# Altium footprint library PcbLib1.PcbLib: 27 footprints (part 2 of 2)
Each footprint in its own frame and in the unit in brackets; x right, y up, seen from the top. Pads: shape width x height; smd on the part's side, far side on the other; paste and mask are expansions set on the pad; w line width, h text height; cw(c..) or ccw(c..) is an arc to the next point about the centre after c.
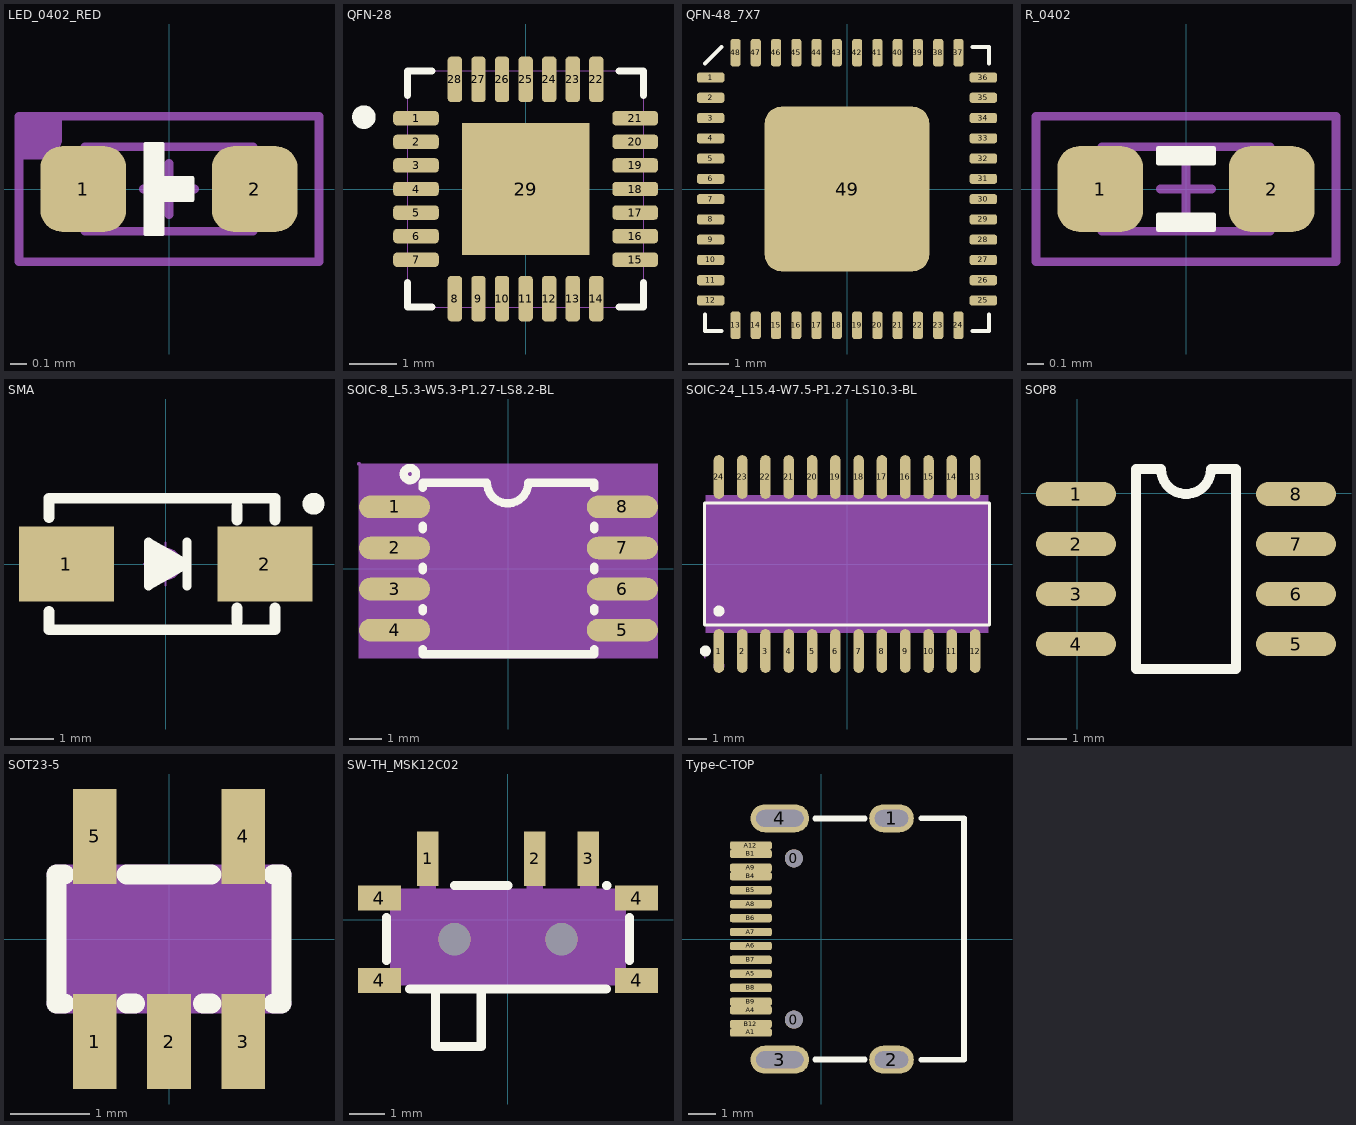
[diagram p1: the footprints below, top view; thin cyan lines are the x and y axes]

## LED_0402_RED [mil]
height 31.5
pads (2):
  rrect50% 20x20 smd: 1(-20,0) 2(20,0)
Top Overlay:
  region: -5.5,10.5 -1.5,10.5 -1.5,2.5 5.5,2.5 5.5,-2.5 -1.5,-2.5 -1.5,-10.5 -5.5,-10.5
  lines w1: -5.5,-10.5 -1.5,-10.5 -1.5,-2.5 5.5,-2.5 5.5,2.5 -1.5,2.5 -1.5,10.5 -5.5,10.5 -5.5,-10.5
Mechanical 13:
  lines w2: -6,0 6,0 ; 0,-6 0,6 ; -19.69,-9.84 -19.69,9.84 19.68,9.84 19.68,-9.84 -19.69,-9.84
Mechanical 14:
  region: -35,17 -25,17 -25,12 -25,11.01 -25.76,9.17 -27.17,7.76 -29.01,7 -30,7 -35,7
  lines w2: -35,-17 -35,17 35,17 35,-17 -35,-17
3D body "User Library-led_0402LED0402 red_.STEP": height 17.72, standoff 0, extent -19.88,-9.84 19.89,9.85

## QFN-28 [mil]
height 169.29
pads (29):
  rrect50% 38x12 smd mask+5: 1(-91.5,59.06) 2(-91.5,39.37) 3(-91.5,19.68) 4(-91.5,0) 5(-91.5,-19.68) 6(-91.5,-39.37) 7(-91.5,-59.06) 15(91.5,-59.06) 16(91.5,-39.37) 17(91.5,-19.68) 18(91.5,0) 19(91.5,19.68) 20(91.5,39.37) 21(91.5,59.06)
  rrect50% 12x38 smd mask+5: 8(-59.06,-91.5) 9(-39.37,-91.5) 10(-19.68,-91.5) 11(0,-91.5) 12(19.68,-91.5) 13(39.37,-91.5) 14(59.06,-91.5) 22(59.06,91.5) 23(39.37,91.5) 24(19.68,91.5) 25(0,91.5) 26(-19.68,91.5) 27(-39.37,91.5) 28(-59.06,91.5)
  rect 106.3x110.24 smd: 29(0,0)
Top Overlay:
  circle w9.84: c-135,60 r4.92
  lines w6: -98.5,-78.16 -98.5,-98.5 -78.16,-98.5 ; -98.5,78.16 -98.5,98.5 -78.16,98.5 ; 78.16,-98.5 98.5,-98.5 98.5,-78.16 ; 78.16,98.5 98.5,98.5 98.5,78.16
Mechanical 1:
  lines w0: -98.5,-98.5 98.5,-98.5 98.5,98.5 -98.5,98.5 -98.5,-98.5 ; -98.5,-65.06 -98.5,-53.06 -98.5,-65.06 ; -98.5,-45.37 -98.5,-33.37 -98.5,-45.37 ; -98.5,-25.68 -98.5,-13.69 -98.5,-25.68 ; -98.5,-6 -98.5,6 -98.5,-6 ; -98.5,13.69 -98.5,25.68 -98.5,13.69 ; -98.5,33.37 -98.5,45.37 -98.5,33.37 ; -98.5,53.06 -98.5,65.06 -98.5,53.06 ; -65.06,-98.5 -53.06,-98.5 -65.06,-98.5 ; -65.06,98.5 -53.06,98.5 -65.06,98.5 ; -45.37,-98.5 -33.37,-98.5 -45.37,-98.5 ; -45.37,98.5 -33.37,98.5 -45.37,98.5 ; -25.68,-98.5 -13.69,-98.5 -25.68,-98.5 ; -25.68,98.5 -13.69,98.5 -25.68,98.5 ; -6,-98.5 6,-98.5 -6,-98.5 ; -6,98.5 6,98.5 -6,98.5 ; 13.69,-98.5 25.68,-98.5 13.69,-98.5 ; 13.69,98.5 25.68,98.5 13.69,98.5 ; 33.37,-98.5 45.37,-98.5 33.37,-98.5 ; 33.37,98.5 45.37,98.5 33.37,98.5 ; 53.06,-98.5 65.06,-98.5 53.06,-98.5 ; 53.06,98.5 65.06,98.5 53.06,98.5 ; 98.5,-65.06 98.5,-53.06 98.5,-65.06 ; 98.5,-45.37 98.5,-33.37 98.5,-45.37 ; 98.5,-25.68 98.5,-13.69 98.5,-25.68 ; 98.5,-6 98.5,6 98.5,-6 ; 98.5,13.69 98.5,25.68 98.5,13.69 ; 98.5,33.37 98.5,45.37 98.5,33.37 ; 98.5,53.06 98.5,65.06 98.5,53.06
3D body "321.stp": height 35.43, standoff 0, extent -98.5,-98.5 98.35,98.35

## QFN-48_7X7 [mm]
height 4.3
pads (49):
  rrect50% 0.675x0.25 smd: 1(-3.363,2.75) 2(-3.363,2.25) 3(-3.363,1.75) 4(-3.363,1.25) 5(-3.363,0.75) 6(-3.363,0.25) 7(-3.363,-0.25) 8(-3.363,-0.75) 9(-3.363,-1.25) 10(-3.363,-1.75) 11(-3.363,-2.25) 12(-3.363,-2.75) 25(3.363,-2.75) 26(3.363,-2.25) 27(3.363,-1.75) 28(3.363,-1.25) 29(3.363,-0.75) 30(3.363,-0.25) 31(3.363,0.25) 32(3.363,0.75) 33(3.363,1.25) 34(3.363,1.75) 35(3.363,2.25) 36(3.363,2.75)
  rrect50% 0.25x0.675 smd: 13(-2.75,-3.363) 14(-2.25,-3.363) 15(-1.75,-3.363) 16(-1.25,-3.363) 17(-0.75,-3.363) 18(-0.25,-3.363) 19(0.25,-3.363) 20(0.75,-3.363) 21(1.25,-3.363) 22(1.75,-3.363) 23(2.25,-3.363) 24(2.75,-3.363) 37(2.75,3.363) 38(2.25,3.363) 39(1.75,3.363) 40(1.25,3.363) 41(0.75,3.363) 42(0.25,3.363) 43(-0.25,3.363) 44(-0.75,3.363) 45(-1.25,3.363) 46(-1.75,3.363) 47(-2.25,3.363) 48(-2.75,3.363)
  rrect20% 4.064x4.064 smd: 49(0,0)
Top Overlay:
  lines w0.1: -3.5,-3.1 -3.5,-3.5 -3.1,-3.5 ; -3.5,3.1 -3.1,3.5 ; 3.1,-3.5 3.5,-3.5 3.5,-3.1 ; 3.1,3.5 3.5,3.5 3.5,3.1
3D body: height 1, standoff 0.05, extent -3.5,-3.5 3.5,3.5

## R_0402 [mil]
height 13.78
pads (2):
  rrect50% 20x20 smd: 1(-20,0) 2(20,0)
Top Overlay:
  region: 6.5,-9.5 -6.5,-9.5 -6.5,-6 6.5,-6
  region: -6.5,9.5 6.5,9.5 6.5,6 -6.5,6
  lines w1: -6.5,-9.5 6.5,-9.5 6.5,-6 -6.5,-6 -6.5,-9.5 ; -6.5,6 -6.5,9.5 6.5,9.5 6.5,6 -6.5,6
Mechanical 13:
  lines w2: -6,0 6,0 ; 0,-6 0,6 ; -19.69,-9.84 -19.69,9.84 19.68,9.84 19.68,-9.84 -19.69,-9.84
Mechanical 14:
  lines w2: -35,-17 35,-17 35,17 -35,17 -35,-17
3D body "RESC1005X03L.step": height 13.78, standoff 0, extent -19.68,-9.84 19.69,9.85

## SMA [mm] "4.5x2.6*2.2mm（长宽高，不包括引脚）"
height 2.54
pads (2):
  rect 2.2x1.75 smd: 1(-2.3,0) 2(2.3,0)
Top Overlay:
  circle w0.254: c3.429,1.397 r0.127
  lines w0.203: 0.494,-0.508 0.494,0.508 ; -0.395,-0.508 -0.395,0.508 0.494,0 -0.395,-0.508
  lines w0.254: -2.7,-1.105 -2.7,-1.524 2.54,-1.524 2.54,-1.016 ; -2.7,1.08 -2.7,1.524 2.54,1.524 2.54,1.016 ; -0.33,0.305 0.305,0 -0.254,-0.305 -0.254,0.051 0.023,0 ; 1.651,-1.35 1.651,-1.016 ; 1.651,1.016 1.651,1.35
Mechanical 15:
  circle w0.05: c0,0 r0.35
  lines w0.05: -0.5,0 0.5,0 ; 0,-0.5 0,0.5
3D body "SMA.STEP": height 2.15, standoff 0.04, extent -2.528,-1.3 2.575,1.3

## SOIC-8_L5.3-W5.3-P1.27-LS8.2-BL [mm] "attiny 85"
pads (8):
  oval 2.2x0.7 smd: 1(-3.523,1.905) 2(-3.523,0.635) 3(-3.523,-0.635) 4(-3.523,-1.905) 5(3.523,-1.905) 6(3.523,-0.635) 7(3.523,0.635) 8(3.523,1.905)
Top Overlay:
  circle w0.254: c-3.048,2.921 r0.191
  lines w0.254: -2.65,-2.486 -2.65,-2.65 2.65,-2.65 2.65,-2.486 ; -2.65,-1.324 -2.65,-1.216 ; -2.65,-0.054 -2.65,0.054 ; -2.65,1.216 -2.65,1.324 ; -2.65,2.486 -2.65,2.65 -0.66,2.65 ccw(c-0.025,2.65) 0.61,2.65 2.65,2.65 2.65,2.486 ; 2.65,-1.324 2.65,-1.216 ; 2.65,-0.054 2.65,0.054 ; 2.65,1.216 2.65,1.324
Mechanical 4:
  region: -4.623,3.238 4.623,3.238 4.623,-2.777 -4.623,-2.777
Mechanical 5:
  region: 2.423,-2.255 2.423,-1.555 4.623,-1.555 4.623,-2.255
  region: 2.423,-0.985 2.423,-0.285 4.623,-0.285 4.623,-0.985
  region: 2.423,0.285 2.423,0.985 4.623,0.985 4.623,0.285
  region: 2.423,1.555 2.423,2.255 4.623,2.255 4.623,1.555
  region: -4.623,-2.255 -4.623,-1.555 -2.423,-1.555 -2.423,-2.255
  region: -4.623,-0.985 -4.623,-0.285 -2.423,-0.285 -2.423,-0.985
  region: -4.623,0.285 -4.623,0.985 -2.423,0.985 -2.423,0.285
  region: -4.623,1.555 -4.623,2.255 -2.423,2.255 -2.423,1.555
Mechanical 6:
  circle w0.06: c-4.623,3.238 r0.03
3D body: height 0.25, standoff 0, extent -2.675,-2.537 2.393,2.537

## SOIC-24_L15.4-W7.5-P1.27-LS10.3-BL [mm]
pads (24):
  oval 0.574x2.388 smd: 1(-6.985,-4.744) 2(-5.715,-4.744) 3(-4.445,-4.744) 4(-3.175,-4.744) 5(-1.905,-4.744) 6(-0.635,-4.744) 7(0.635,-4.744) 8(1.905,-4.744) 9(3.175,-4.744) 10(4.445,-4.744) 11(5.715,-4.744) 12(6.985,-4.744) 13(6.985,4.744) 14(5.715,4.744) 15(4.445,4.744) 16(3.175,4.744) 17(1.905,4.744) 18(0.635,4.744) 19(-0.635,4.744) 20(-1.905,4.744) 21(-3.175,4.744) 22(-4.445,4.744) 23(-5.715,4.744) 24(-6.985,4.744)
Top Overlay:
  circle w0.3: c-6.985,-2.569 r0.15
  circle w0.3: c-7.724,-4.744 r0.15
  lines w0.152: -7.776,-3.321 -7.776,3.321 7.776,3.321 7.776,-3.321 -7.776,-3.321
Mechanical 4:
  region: -7.7,-3.75 -7.7,3.75 7.7,3.75 7.7,-3.75
Mechanical 5:
  drawing of 48 lines, arcs and shapes, not listed
Mechanical 6:
  circle w0.06: c-7.747,-5.08 r0.03
Mechanical 15:
  circle w0.3: c-6.985,-5.55 r0.15
3D body "SOIC24 wide.stp": height 2, standoff 0, extent -7.77,-4.828 7.77,5.336

## SOP8 [mil] "（蒜米工坊）"
pads (8):
  oval 80x24 smd: 1(-1,-1) 2(-1,-51) 3(-1,-101) 4(-1,-151) 5(219,-151) 6(219,-101) 7(219,-51) 8(219,-1)
Top Overlay:
  lines w10: 59,-176 59,24 84,24 ccw(c109,24) 134,24 159,24 159,-176 59,-176
3D body "SOP8.STEP": height 62.99, standoff 0, extent -3.93,-173.82 233.94,23.82

## SOT23-5 [mil]
pads (5):
  rect 21.7x47.2 smd: 1(-37,-51) 2(0,-51) 3(37,-51) 4(37,51) 5(-37,51)
Top Overlay:
  lines w10: -52,-32 -56,-32 -56,32 -52,32 ; -21,-32 -17,-32 ; -21,32 21,32 ; 17,-32 21,-32 ; 52,-32 56,-32 56,32 52,32
Mechanical 4:
  region: -55.12,31.5 55.12,31.5 55.12,-31.5 -55.12,-31.5
Mechanical 5:
  region: -43.89,-59.05 -43.89,-41.34 -30.11,-41.34 -30.11,-59.05
  pour cut-out: -43.89,-41.73 -43.89,-31.1 -30.11,-31.1 -30.11,-41.73
  region: -6.89,-59.05 -6.89,-41.34 6.89,-41.34 6.89,-59.05
  pour cut-out: -6.89,-41.73 -6.89,-31.1 6.89,-31.1 6.89,-41.73
  region: 30.11,-59.05 30.11,-41.34 43.89,-41.34 43.89,-59.05
  pour cut-out: 30.11,-41.73 30.11,-31.1 43.89,-31.1 43.89,-41.73
  region: 30.11,41.34 30.11,59.05 43.89,59.05 43.89,41.34
  pour cut-out: 30.11,31.1 30.11,41.73 43.89,41.73 43.89,31.1
  region: -43.89,41.34 -43.89,59.05 -30.11,59.05 -30.11,41.34
  pour cut-out: -43.89,31.1 -43.89,41.73 -30.11,41.73 -30.11,31.1
Mechanical 15:
  lines w10: -56,-32 56,-32 ; -56,32 56,32

## SW-TH_MSK12C02 [mm]
pads (9):
  rect 0.6x1.524 smd: 1(-2.25,1.7) 2(0.75,1.7) 3(2.25,1.7)
  rect 1.2x0.7 smd: 4(-3.6,-1.7) 4(-3.6,0.6) 4(3.6,-1.7) 4(3.6,0.6)
  round 0.9 hole 0.9 unplated: ""(-1.5,-0.55) ""(1.5,-0.55)
Top Overlay:
  lines w0.254: -3.4,-1.144 -3.4,0.056 ; -2.75,-1.95 2.75,-1.95 ; -2.025,-1.95 -2.025,-3.55 -0.75,-3.55 -0.75,-1.95 ; -1.5,0.95 0,0.95 ; 2.759,0.95 2.769,0.95 ; 3.4,-1.144 3.4,0.056
Mechanical 4:
  circle w0.45: c1.5,-0.55 r0.225
  circle w0.45: c-1.5,-0.55 r0.225
  region: -3.3,0.856 3.3,0.856 3.3,-1.844 -3.3,-1.844
Mechanical 5:
  region: 2.025,1.056 2.025,2.056 2.475,2.056 2.475,1.056
  pour cut-out: 2.025,0.846 2.025,1.066 2.475,1.066 2.475,0.846
  region: 0.525,1.056 0.525,2.056 0.975,2.056 0.975,1.056
  pour cut-out: 0.525,0.846 0.525,1.066 0.975,1.066 0.975,0.846
  region: -2.475,1.056 -2.475,2.056 -2.025,2.056 -2.025,1.056
  pour cut-out: -2.475,0.846 -2.475,1.066 -2.025,1.066 -2.025,0.846
  region: 3.93,-1.831 3.23,-1.831 3.23,-1.381 3.93,-1.381
  region: 3.95,0.375 3.25,0.375 3.25,0.825 3.95,0.825
  region: -3.25,-1.831 -3.95,-1.831 -3.95,-1.381 -3.25,-1.381
  region: -3.25,0.375 -3.95,0.375 -3.95,0.825 -3.25,0.825
Mechanical 6:
  circle w0.06: c-3.3,-1.844 r0.03

## Type-C-TOP [mm]
height 4.3
pads (22):
  round 0.65 hole 0.65: 0(-0.98,-2.89) 0(-0.98,2.89)
  oval 1.6x1 hole 0.6 slot 1.2 at 0 deg: 1(2.52,4.325) 2(2.52,-4.325)
  oval 2.1x1 hole 0.6 slot 1.7 at 0 deg: 3(-1.48,-4.325) 4(-1.48,4.325)
  rrect50% 1.5x0.3 smd: A1(-2.52,-3.35) A4(-2.52,-2.55) A5(-2.52,-1.25) A6(-2.52,-0.25) A7(-2.52,0.25) A8(-2.52,1.25) A9(-2.52,2.55) A12(-2.52,3.35) B1(-2.52,3.05) B4(-2.52,2.25) B5(-2.52,1.75) B6(-2.52,0.75) B7(-2.52,-0.75) B8(-2.52,-1.75) B9(-2.52,-2.25) B12(-2.52,-3.05)
Top Overlay:
  lines w0.203: -0.218,-4.318 1.56,-4.318 ; -0.218,4.318 1.56,4.318 ; 3.592,-4.325 5.12,-4.325 5.12,4.325 3.592,4.325
3D body "1.step": height 3.26, standoff -1, extent -2.568,-4.475 5.182,4.475